# Altium schematic symbol library resistor_100k.SchLib: 1 symbol
Pins are listed as number, name and electrical type; pins without a type are passive.

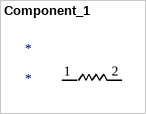
[diagram p0: symbol Component_1]

## Component_1
designator *
footprint DIOMELF3516N (MELF Diode, 2-Leads, Body 3.50x1.65mm, IPC Medium Density)
pins: 1, 2